# EAGLE library part HEADER-4X(1X03) (library magzor)
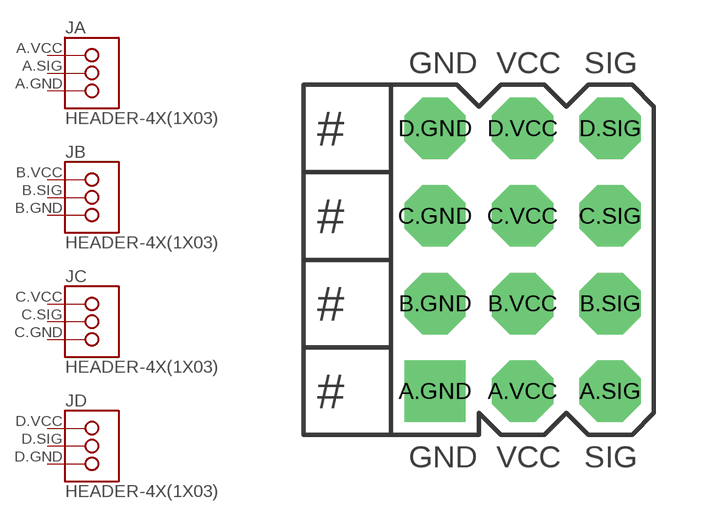
[diagram p36: symbol with the pads of HEADER-4X03-QUAD-SERVO; footprint HEADER-4X03-QUAD-SERVO]

Designator prefix J; gates A=HEADER-1X03 B=HEADER-1X03 C=HEADER-1X03 D=HEADER-1X03

## HEADER-4X(1X03)-QUAD-SERVO  [HEADER-4X03-QUAD-SERVO]
A.GND  A:3
A.SIG  A:2
A.VCC  A:1
B.GND  B:3
B.SIG  B:2
B.VCC  B:1
C.GND  C:3
C.SIG  C:2
C.VCC  C:1
D.GND  D:3
D.SIG  D:2
D.VCC  D:1

## Footprint HEADER-4X03-QUAD-SERVO (pad centres in mm)
drill 0.965 pad 1.778 square: A.GND -2.54,-3.81
drill 0.965 pad 1.778 octagon: A.SIG 2.54,-3.81; A.VCC 0,-3.81; B.GND -2.54,-1.27; B.SIG 2.54,-1.27; B.VCC 0,-1.27; C.GND -2.54,1.27; C.SIG 2.54,1.27; C.VCC 0,1.27; D.GND -2.54,3.81; D.SIG 2.54,3.81; D.VCC 0,3.81